# Altium schematic symbol library kmilo17pet-LT_PMIC_LT.SchLib: 2252 symbols (part 33 of 124)
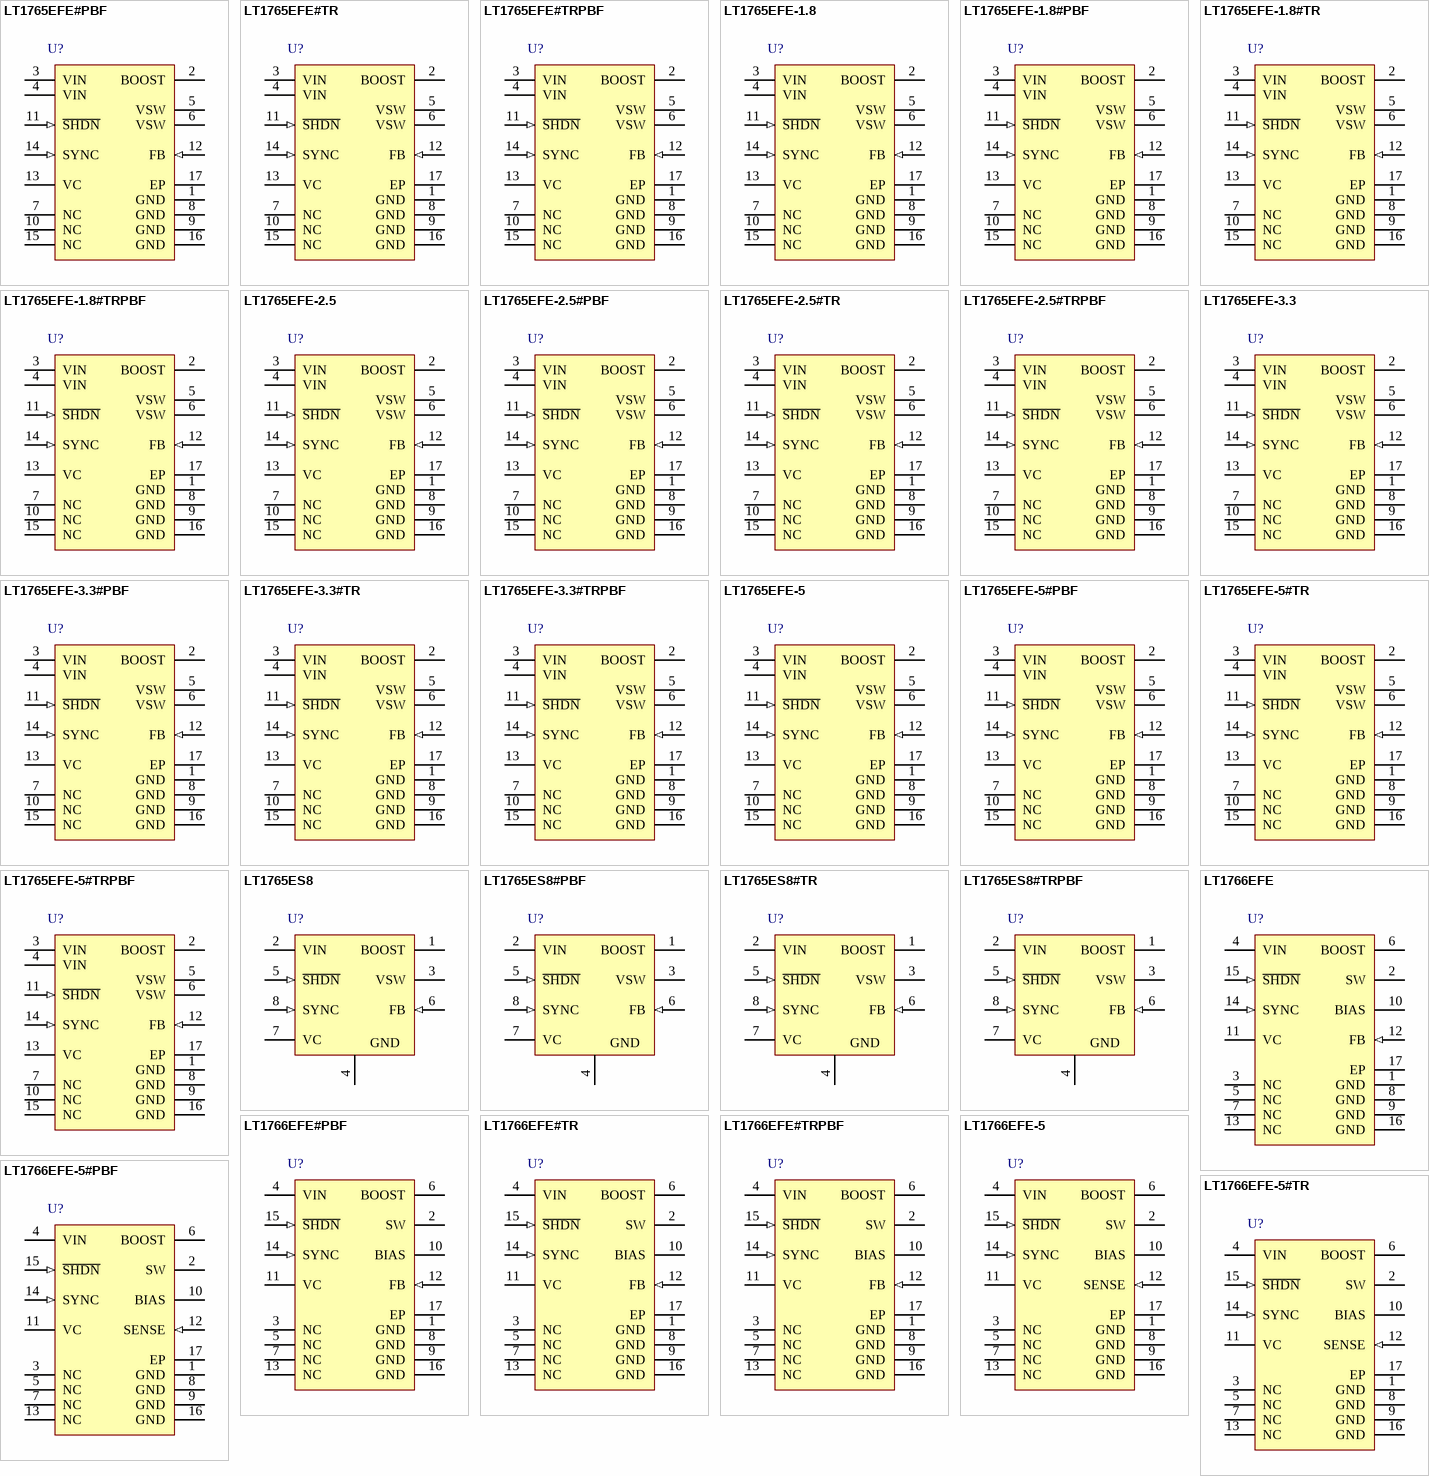
[diagram p103: symbols LT1765EFE#PBF to LT1766EFE-5#TR]

## LT1765EFE#TR
designator U?
Monolithic 3 A, 1.25 MHz Step-Down Switching Regulator, 16-pin SOP (FE-16-EPV-BB), -40 to 125 degC, Tape and Reel; Manufacturer: Linear Technology; PartNumber: LT1765EFE#TR; Number of Outputs: 1; PackageReference: FE-16; PackageDescription: 16-Pin Plastic TSSOP, Body 5 x 4.4 mm, Pitch 0.65 mm; Supplier 1: Digi-Key; Supplier Part Number 1: LT1765EFETR-ND; RoHS: FALSE
footprint LT-FE-16-EPV-BB_N (SOP, 16-Leads, Body 5.1x4.5mm, Pitch 0.65mm, Thermal Pad 3.58x2.94mm, IPC Medium Density)
footprint LT-FE-16-EPV-BB_L (SOP, 16-Leads, Body 5.1x4.5mm, Pitch 0.65mm, Thermal Pad 3.58x2.94mm, IPC High Density)
footprint LT-FE-16-EPV-BB_M (SOP, 16-Leads, Body 5.1x4.5mm, Pitch 0.65mm, Thermal Pad 3.58x2.94mm, IPC Low Density)
pins: 1 GND (power) "The GND pin acts as the reference for the regulated output, so load regulation will suffer if the “ground?end of the load is not at the same voltage as the GND pin of the IC. This condition will occur when load curr(See Datasheet)", 2 BOOST "The BOOST pin is used to provide a drive voltage, higher than the input voltage, to the internal bipolar NPN power switch.", 3 VIN (power) "This is the collector of the on-chip power NPN switch. This pin powers the internal circuitry and internal regulator. At NPN switch on and off, high di/dt edges occur on this pin. Keep the external bypass capacitor and catch (See Datasheet)", 4 VIN (power) "This is the collector of the on-chip power NPN switch. This pin powers the internal circuitry and internal regulator. At NPN switch on and off, high di/dt edges occur on this pin. Keep the external bypass capacitor and catch (See Datasheet)", 5 VSW (power) "The switch pin is the emitter of the on-chip power NPN switch. This pin is driven up to the input pin voltage during switch on time. Inductor current drives the switch pin negative during switch off time. Negative voltage (See Datasheet)", 6 VSW (power) "The switch pin is the emitter of the on-chip power NPN switch. This pin is driven up to the input pin voltage during switch on time. Inductor current drives the switch pin negative during switch off time. Negative voltage (See Datasheet)", 7 NC, 8 GND (power) "The GND pin acts as the reference for the regulated output, so load regulation will suffer if the “ground?end of the load is not at the same voltage as the GND pin of the IC. This condition will occur when load curr(See Datasheet)", 9 GND (power) "The GND pin acts as the reference for the regulated output, so load regulation will suffer if the “ground?end of the load is not at the same voltage as the GND pin of the IC. This condition will occur when load curr(See Datasheet)", 10 NC, 11 ~{SHDN} (in) "The shutdown pin is used to turn off the regulator and to reduce input drain current to a few microamperes. The 1.33V threshold can function as an accurate undervoltage lockout (UVLO), preventing the regulator from operating (See Datasheet)", 12 FB (in) "The feedback pin is used to set output voltage using an external voltage divider (adjustable version) that generates 1.2V at the pin when connected to the desired output voltage. The fixed voltage 1.8V, 2.5V, 3.3V and 5V (See Datasheet)", 13 VC "The VC pin is the output of the error amplifier and the input of the peak switch current comparator. It is normally used for frequency compensation, but can do double duty as a current clamp or control loop override. This (See Datasheet)", 14 SYNC (in) "The sync pin is used to synchronize the internal oscillator to an external signal. It is directly logic compatible and can be driven with any signal between 20% and 80% duty cycle. The synchronizing range is from 1.6MHz to (See Datasheet)", 15 NC, 16 GND (power) "The GND pin acts as the reference for the regulated output, so load regulation will suffer if the “ground?end of the load is not at the same voltage as the GND pin of the IC. This condition will occur when load curr(See Datasheet)", 17 EP (power) "The exposed GND pad and/or GND pins of the package are directly attached to the internal tab. These pins/pad should be attached to a large copper area to reduce thermal resistance."

## LT1765EFE#TRPBF
designator U?
Monolithic 3 A, 1.25 MHz Step-Down Switching Regulator, 16-pin SOP (FE-16-EPV-BB), -40 to 125 degC, Pb-Free, Tape and Reel; Manufacturer: Linear Technology; PartNumber: LT1765EFE#TRPBF; Number of Outputs: 1; PackageReference: FE-16; PackageDescription: 16-Pin Plastic TSSOP, Body 5 x 4.4 mm, Pitch 0.65 mm; Supplier 1: Digi-Key; Supplier Part Number 1: LT1765EFE#TRPBF-ND; RoHS: TRUE
footprint LT-FE-16-EPV-BB_N (SOP, 16-Leads, Body 5.1x4.5mm, Pitch 0.65mm, Thermal Pad 3.58x2.94mm, IPC Medium Density)
footprint LT-FE-16-EPV-BB_L (SOP, 16-Leads, Body 5.1x4.5mm, Pitch 0.65mm, Thermal Pad 3.58x2.94mm, IPC High Density)
footprint LT-FE-16-EPV-BB_M (SOP, 16-Leads, Body 5.1x4.5mm, Pitch 0.65mm, Thermal Pad 3.58x2.94mm, IPC Low Density)
pins: 1 GND (power) "The GND pin acts as the reference for the regulated output, so load regulation will suffer if the “ground?end of the load is not at the same voltage as the GND pin of the IC. This condition will occur when load curr(See Datasheet)", 2 BOOST "The BOOST pin is used to provide a drive voltage, higher than the input voltage, to the internal bipolar NPN power switch.", 3 VIN (power) "This is the collector of the on-chip power NPN switch. This pin powers the internal circuitry and internal regulator. At NPN switch on and off, high di/dt edges occur on this pin. Keep the external bypass capacitor and catch (See Datasheet)", 4 VIN (power) "This is the collector of the on-chip power NPN switch. This pin powers the internal circuitry and internal regulator. At NPN switch on and off, high di/dt edges occur on this pin. Keep the external bypass capacitor and catch (See Datasheet)", 5 VSW (power) "The switch pin is the emitter of the on-chip power NPN switch. This pin is driven up to the input pin voltage during switch on time. Inductor current drives the switch pin negative during switch off time. Negative voltage (See Datasheet)", 6 VSW (power) "The switch pin is the emitter of the on-chip power NPN switch. This pin is driven up to the input pin voltage during switch on time. Inductor current drives the switch pin negative during switch off time. Negative voltage (See Datasheet)", 7 NC, 8 GND (power) "The GND pin acts as the reference for the regulated output, so load regulation will suffer if the “ground?end of the load is not at the same voltage as the GND pin of the IC. This condition will occur when load curr(See Datasheet)", 9 GND (power) "The GND pin acts as the reference for the regulated output, so load regulation will suffer if the “ground?end of the load is not at the same voltage as the GND pin of the IC. This condition will occur when load curr(See Datasheet)", 10 NC, 11 ~{SHDN} (in) "The shutdown pin is used to turn off the regulator and to reduce input drain current to a few microamperes. The 1.33V threshold can function as an accurate undervoltage lockout (UVLO), preventing the regulator from operating (See Datasheet)", 12 FB (in) "The feedback pin is used to set output voltage using an external voltage divider (adjustable version) that generates 1.2V at the pin when connected to the desired output voltage. The fixed voltage 1.8V, 2.5V, 3.3V and 5V (See Datasheet)", 13 VC "The VC pin is the output of the error amplifier and the input of the peak switch current comparator. It is normally used for frequency compensation, but can do double duty as a current clamp or control loop override. This (See Datasheet)", 14 SYNC (in) "The sync pin is used to synchronize the internal oscillator to an external signal. It is directly logic compatible and can be driven with any signal between 20% and 80% duty cycle. The synchronizing range is from 1.6MHz to (See Datasheet)", 15 NC, 16 GND (power) "The GND pin acts as the reference for the regulated output, so load regulation will suffer if the “ground?end of the load is not at the same voltage as the GND pin of the IC. This condition will occur when load curr(See Datasheet)", 17 EP (power) "The exposed GND pad and/or GND pins of the package are directly attached to the internal tab. These pins/pad should be attached to a large copper area to reduce thermal resistance."

## LT1765EFE-1.8
designator U?
Monolithic 3 A, 1.25 MHz Step-Down Switching Regulator, 16-pin SOP (FE-16-EPV-BB), -40 to 125 degC; Manufacturer: Linear Technology; PartNumber: LT1765EFE-1.8; Number of Outputs: 1; PackageReference: FE-16; PackageDescription: 16-Pin Plastic TSSOP, Body 5 x 4.4 mm, Pitch 0.65 mm; Supplier 1: Digi-Key; Supplier Part Number 1: LT1765EFE-1.8-ND; RoHS: FALSE
footprint LT-FE-16-EPV-BB_N (SOP, 16-Leads, Body 5.1x4.5mm, Pitch 0.65mm, Thermal Pad 3.58x2.94mm, IPC Medium Density)
footprint LT-FE-16-EPV-BB_L (SOP, 16-Leads, Body 5.1x4.5mm, Pitch 0.65mm, Thermal Pad 3.58x2.94mm, IPC High Density)
footprint LT-FE-16-EPV-BB_M (SOP, 16-Leads, Body 5.1x4.5mm, Pitch 0.65mm, Thermal Pad 3.58x2.94mm, IPC Low Density)
pins: 1 GND (power) "The GND pin acts as the reference for the regulated output, so load regulation will suffer if the “ground?end of the load is not at the same voltage as the GND pin of the IC. This condition will occur when load curr(See Datasheet)", 2 BOOST "The BOOST pin is used to provide a drive voltage, higher than the input voltage, to the internal bipolar NPN power switch.", 3 VIN (power) "This is the collector of the on-chip power NPN switch. This pin powers the internal circuitry and internal regulator. At NPN switch on and off, high di/dt edges occur on this pin. Keep the external bypass capacitor and catch (See Datasheet)", 4 VIN (power) "This is the collector of the on-chip power NPN switch. This pin powers the internal circuitry and internal regulator. At NPN switch on and off, high di/dt edges occur on this pin. Keep the external bypass capacitor and catch (See Datasheet)", 5 VSW (power) "The switch pin is the emitter of the on-chip power NPN switch. This pin is driven up to the input pin voltage during switch on time. Inductor current drives the switch pin negative during switch off time. Negative voltage (See Datasheet)", 6 VSW (power) "The switch pin is the emitter of the on-chip power NPN switch. This pin is driven up to the input pin voltage during switch on time. Inductor current drives the switch pin negative during switch off time. Negative voltage (See Datasheet)", 7 NC, 8 GND (power) "The GND pin acts as the reference for the regulated output, so load regulation will suffer if the “ground?end of the load is not at the same voltage as the GND pin of the IC. This condition will occur when load curr(See Datasheet)", 9 GND (power) "The GND pin acts as the reference for the regulated output, so load regulation will suffer if the “ground?end of the load is not at the same voltage as the GND pin of the IC. This condition will occur when load curr(See Datasheet)", 10 NC, 11 ~{SHDN} (in) "The shutdown pin is used to turn off the regulator and to reduce input drain current to a few microamperes. The 1.33V threshold can function as an accurate undervoltage lockout (UVLO), preventing the regulator from operating (See Datasheet)", 12 FB (in) "The feedback pin is used to set output voltage using an external voltage divider (adjustable version) that generates 1.2V at the pin when connected to the desired output voltage. The fixed voltage 1.8V, 2.5V, 3.3V and 5V (See Datasheet)", 13 VC "The VC pin is the output of the error amplifier and the input of the peak switch current comparator. It is normally used for frequency compensation, but can do double duty as a current clamp or control loop override. This (See Datasheet)", 14 SYNC (in) "The sync pin is used to synchronize the internal oscillator to an external signal. It is directly logic compatible and can be driven with any signal between 20% and 80% duty cycle. The synchronizing range is from 1.6MHz to (See Datasheet)", 15 NC, 16 GND (power) "The GND pin acts as the reference for the regulated output, so load regulation will suffer if the “ground?end of the load is not at the same voltage as the GND pin of the IC. This condition will occur when load curr(See Datasheet)", 17 EP (power) "The exposed GND pad and/or GND pins of the package are directly attached to the internal tab. These pins/pad should be attached to a large copper area to reduce thermal resistance."

## LT1765EFE-1.8#PBF
designator U?
Monolithic 3 A, 1.25 MHz Step-Down Switching Regulator, 16-pin SOP (FE-16-EPV-BB), -40 to 125 degC, Pb-Free; Manufacturer: Linear Technology; PartNumber: LT1765EFE-1.8#PBF; Number of Outputs: 1; PackageReference: FE-16; PackageDescription: 16-Pin Plastic TSSOP, Body 5 x 4.4 mm, Pitch 0.65 mm; Supplier 1: Digi-Key; Supplier Part Number 1: LT1765EFE-1.8#PBF-ND; RoHS: TRUE
footprint LT-FE-16-EPV-BB_N (SOP, 16-Leads, Body 5.1x4.5mm, Pitch 0.65mm, Thermal Pad 3.58x2.94mm, IPC Medium Density)
footprint LT-FE-16-EPV-BB_L (SOP, 16-Leads, Body 5.1x4.5mm, Pitch 0.65mm, Thermal Pad 3.58x2.94mm, IPC High Density)
footprint LT-FE-16-EPV-BB_M (SOP, 16-Leads, Body 5.1x4.5mm, Pitch 0.65mm, Thermal Pad 3.58x2.94mm, IPC Low Density)
pins: 1 GND (power) "The GND pin acts as the reference for the regulated output, so load regulation will suffer if the “ground?end of the load is not at the same voltage as the GND pin of the IC. This condition will occur when load curr(See Datasheet)", 2 BOOST "The BOOST pin is used to provide a drive voltage, higher than the input voltage, to the internal bipolar NPN power switch.", 3 VIN (power) "This is the collector of the on-chip power NPN switch. This pin powers the internal circuitry and internal regulator. At NPN switch on and off, high di/dt edges occur on this pin. Keep the external bypass capacitor and catch (See Datasheet)", 4 VIN (power) "This is the collector of the on-chip power NPN switch. This pin powers the internal circuitry and internal regulator. At NPN switch on and off, high di/dt edges occur on this pin. Keep the external bypass capacitor and catch (See Datasheet)", 5 VSW (power) "The switch pin is the emitter of the on-chip power NPN switch. This pin is driven up to the input pin voltage during switch on time. Inductor current drives the switch pin negative during switch off time. Negative voltage (See Datasheet)", 6 VSW (power) "The switch pin is the emitter of the on-chip power NPN switch. This pin is driven up to the input pin voltage during switch on time. Inductor current drives the switch pin negative during switch off time. Negative voltage (See Datasheet)", 7 NC, 8 GND (power) "The GND pin acts as the reference for the regulated output, so load regulation will suffer if the “ground?end of the load is not at the same voltage as the GND pin of the IC. This condition will occur when load curr(See Datasheet)", 9 GND (power) "The GND pin acts as the reference for the regulated output, so load regulation will suffer if the “ground?end of the load is not at the same voltage as the GND pin of the IC. This condition will occur when load curr(See Datasheet)", 10 NC, 11 ~{SHDN} (in) "The shutdown pin is used to turn off the regulator and to reduce input drain current to a few microamperes. The 1.33V threshold can function as an accurate undervoltage lockout (UVLO), preventing the regulator from operating (See Datasheet)", 12 FB (in) "The feedback pin is used to set output voltage using an external voltage divider (adjustable version) that generates 1.2V at the pin when connected to the desired output voltage. The fixed voltage 1.8V, 2.5V, 3.3V and 5V (See Datasheet)", 13 VC "The VC pin is the output of the error amplifier and the input of the peak switch current comparator. It is normally used for frequency compensation, but can do double duty as a current clamp or control loop override. This (See Datasheet)", 14 SYNC (in) "The sync pin is used to synchronize the internal oscillator to an external signal. It is directly logic compatible and can be driven with any signal between 20% and 80% duty cycle. The synchronizing range is from 1.6MHz to (See Datasheet)", 15 NC, 16 GND (power) "The GND pin acts as the reference for the regulated output, so load regulation will suffer if the “ground?end of the load is not at the same voltage as the GND pin of the IC. This condition will occur when load curr(See Datasheet)", 17 EP (power) "The exposed GND pad and/or GND pins of the package are directly attached to the internal tab. These pins/pad should be attached to a large copper area to reduce thermal resistance."

## LT1765EFE-1.8#TR
designator U?
Monolithic 3 A, 1.25 MHz Step-Down Switching Regulator, 16-pin SOP (FE-16-EPV-BB), -40 to 125 degC, Tape and Reel; Manufacturer: Linear Technology; PartNumber: LT1765EFE-1.8#TR; Number of Outputs: 1; PackageReference: FE-16; PackageDescription: 16-Pin Plastic TSSOP, Body 5 x 4.4 mm, Pitch 0.65 mm; Supplier 1: Digi-Key; Supplier Part Number 1: LT1765EFE-1.8#TR-ND; RoHS: FALSE
footprint LT-FE-16-EPV-BB_N (SOP, 16-Leads, Body 5.1x4.5mm, Pitch 0.65mm, Thermal Pad 3.58x2.94mm, IPC Medium Density)
footprint LT-FE-16-EPV-BB_L (SOP, 16-Leads, Body 5.1x4.5mm, Pitch 0.65mm, Thermal Pad 3.58x2.94mm, IPC High Density)
footprint LT-FE-16-EPV-BB_M (SOP, 16-Leads, Body 5.1x4.5mm, Pitch 0.65mm, Thermal Pad 3.58x2.94mm, IPC Low Density)
pins: 1 GND (power) "The GND pin acts as the reference for the regulated output, so load regulation will suffer if the “ground?end of the load is not at the same voltage as the GND pin of the IC. This condition will occur when load curr(See Datasheet)", 2 BOOST "The BOOST pin is used to provide a drive voltage, higher than the input voltage, to the internal bipolar NPN power switch.", 3 VIN (power) "This is the collector of the on-chip power NPN switch. This pin powers the internal circuitry and internal regulator. At NPN switch on and off, high di/dt edges occur on this pin. Keep the external bypass capacitor and catch (See Datasheet)", 4 VIN (power) "This is the collector of the on-chip power NPN switch. This pin powers the internal circuitry and internal regulator. At NPN switch on and off, high di/dt edges occur on this pin. Keep the external bypass capacitor and catch (See Datasheet)", 5 VSW (power) "The switch pin is the emitter of the on-chip power NPN switch. This pin is driven up to the input pin voltage during switch on time. Inductor current drives the switch pin negative during switch off time. Negative voltage (See Datasheet)", 6 VSW (power) "The switch pin is the emitter of the on-chip power NPN switch. This pin is driven up to the input pin voltage during switch on time. Inductor current drives the switch pin negative during switch off time. Negative voltage (See Datasheet)", 7 NC, 8 GND (power) "The GND pin acts as the reference for the regulated output, so load regulation will suffer if the “ground?end of the load is not at the same voltage as the GND pin of the IC. This condition will occur when load curr(See Datasheet)", 9 GND (power) "The GND pin acts as the reference for the regulated output, so load regulation will suffer if the “ground?end of the load is not at the same voltage as the GND pin of the IC. This condition will occur when load curr(See Datasheet)", 10 NC, 11 ~{SHDN} (in) "The shutdown pin is used to turn off the regulator and to reduce input drain current to a few microamperes. The 1.33V threshold can function as an accurate undervoltage lockout (UVLO), preventing the regulator from operating (See Datasheet)", 12 FB (in) "The feedback pin is used to set output voltage using an external voltage divider (adjustable version) that generates 1.2V at the pin when connected to the desired output voltage. The fixed voltage 1.8V, 2.5V, 3.3V and 5V (See Datasheet)", 13 VC "The VC pin is the output of the error amplifier and the input of the peak switch current comparator. It is normally used for frequency compensation, but can do double duty as a current clamp or control loop override. This (See Datasheet)", 14 SYNC (in) "The sync pin is used to synchronize the internal oscillator to an external signal. It is directly logic compatible and can be driven with any signal between 20% and 80% duty cycle. The synchronizing range is from 1.6MHz to (See Datasheet)", 15 NC, 16 GND (power) "The GND pin acts as the reference for the regulated output, so load regulation will suffer if the “ground?end of the load is not at the same voltage as the GND pin of the IC. This condition will occur when load curr(See Datasheet)", 17 EP (power) "The exposed GND pad and/or GND pins of the package are directly attached to the internal tab. These pins/pad should be attached to a large copper area to reduce thermal resistance."

## LT1765EFE-1.8#TRPBF
designator U?
Monolithic 3 A, 1.25 MHz Step-Down Switching Regulator, 16-pin SOP (FE-16-EPV-BB), -40 to 125 degC, Pb-Free, Tape and Reel; Manufacturer: Linear Technology; PartNumber: LT1765EFE-1.8#TRPBF; Number of Outputs: 1; PackageReference: FE-16; PackageDescription: 16-Pin Plastic TSSOP, Body 5 x 4.4 mm, Pitch 0.65 mm; Supplier 1: Digi-Key; Supplier Part Number 1: LT1765EFE-1.8#TRPBF-ND; RoHS: TRUE
footprint LT-FE-16-EPV-BB_N (SOP, 16-Leads, Body 5.1x4.5mm, Pitch 0.65mm, Thermal Pad 3.58x2.94mm, IPC Medium Density)
footprint LT-FE-16-EPV-BB_L (SOP, 16-Leads, Body 5.1x4.5mm, Pitch 0.65mm, Thermal Pad 3.58x2.94mm, IPC High Density)
footprint LT-FE-16-EPV-BB_M (SOP, 16-Leads, Body 5.1x4.5mm, Pitch 0.65mm, Thermal Pad 3.58x2.94mm, IPC Low Density)
pins: 1 GND (power) "The GND pin acts as the reference for the regulated output, so load regulation will suffer if the “ground?end of the load is not at the same voltage as the GND pin of the IC. This condition will occur when load curr(See Datasheet)", 2 BOOST "The BOOST pin is used to provide a drive voltage, higher than the input voltage, to the internal bipolar NPN power switch.", 3 VIN (power) "This is the collector of the on-chip power NPN switch. This pin powers the internal circuitry and internal regulator. At NPN switch on and off, high di/dt edges occur on this pin. Keep the external bypass capacitor and catch (See Datasheet)", 4 VIN (power) "This is the collector of the on-chip power NPN switch. This pin powers the internal circuitry and internal regulator. At NPN switch on and off, high di/dt edges occur on this pin. Keep the external bypass capacitor and catch (See Datasheet)", 5 VSW (power) "The switch pin is the emitter of the on-chip power NPN switch. This pin is driven up to the input pin voltage during switch on time. Inductor current drives the switch pin negative during switch off time. Negative voltage (See Datasheet)", 6 VSW (power) "The switch pin is the emitter of the on-chip power NPN switch. This pin is driven up to the input pin voltage during switch on time. Inductor current drives the switch pin negative during switch off time. Negative voltage (See Datasheet)", 7 NC, 8 GND (power) "The GND pin acts as the reference for the regulated output, so load regulation will suffer if the “ground?end of the load is not at the same voltage as the GND pin of the IC. This condition will occur when load curr(See Datasheet)", 9 GND (power) "The GND pin acts as the reference for the regulated output, so load regulation will suffer if the “ground?end of the load is not at the same voltage as the GND pin of the IC. This condition will occur when load curr(See Datasheet)", 10 NC, 11 ~{SHDN} (in) "The shutdown pin is used to turn off the regulator and to reduce input drain current to a few microamperes. The 1.33V threshold can function as an accurate undervoltage lockout (UVLO), preventing the regulator from operating (See Datasheet)", 12 FB (in) "The feedback pin is used to set output voltage using an external voltage divider (adjustable version) that generates 1.2V at the pin when connected to the desired output voltage. The fixed voltage 1.8V, 2.5V, 3.3V and 5V (See Datasheet)", 13 VC "The VC pin is the output of the error amplifier and the input of the peak switch current comparator. It is normally used for frequency compensation, but can do double duty as a current clamp or control loop override. This (See Datasheet)", 14 SYNC (in) "The sync pin is used to synchronize the internal oscillator to an external signal. It is directly logic compatible and can be driven with any signal between 20% and 80% duty cycle. The synchronizing range is from 1.6MHz to (See Datasheet)", 15 NC, 16 GND (power) "The GND pin acts as the reference for the regulated output, so load regulation will suffer if the “ground?end of the load is not at the same voltage as the GND pin of the IC. This condition will occur when load curr(See Datasheet)", 17 EP (power) "The exposed GND pad and/or GND pins of the package are directly attached to the internal tab. These pins/pad should be attached to a large copper area to reduce thermal resistance."

## LT1765EFE-2.5
designator U?
Monolithic 3 A, 1.25 MHz Step-Down Switching Regulator, 16-pin SOP (FE-16-EPV-BB), -40 to 125 degC; Manufacturer: Linear Technology; PartNumber: LT1765EFE-2.5; Number of Outputs: 1; PackageReference: FE-16; PackageDescription: 16-Pin Plastic TSSOP, Body 5 x 4.4 mm, Pitch 0.65 mm; RoHS: FALSE
footprint LT-FE-16-EPV-BB_N (SOP, 16-Leads, Body 5.1x4.5mm, Pitch 0.65mm, Thermal Pad 3.58x2.94mm, IPC Medium Density)
footprint LT-FE-16-EPV-BB_L (SOP, 16-Leads, Body 5.1x4.5mm, Pitch 0.65mm, Thermal Pad 3.58x2.94mm, IPC High Density)
footprint LT-FE-16-EPV-BB_M (SOP, 16-Leads, Body 5.1x4.5mm, Pitch 0.65mm, Thermal Pad 3.58x2.94mm, IPC Low Density)
pins: 1 GND (power) "The GND pin acts as the reference for the regulated output, so load regulation will suffer if the “ground?end of the load is not at the same voltage as the GND pin of the IC. This condition will occur when load curr(See Datasheet)", 2 BOOST "The BOOST pin is used to provide a drive voltage, higher than the input voltage, to the internal bipolar NPN power switch.", 3 VIN (power) "This is the collector of the on-chip power NPN switch. This pin powers the internal circuitry and internal regulator. At NPN switch on and off, high di/dt edges occur on this pin. Keep the external bypass capacitor and catch (See Datasheet)", 4 VIN (power) "This is the collector of the on-chip power NPN switch. This pin powers the internal circuitry and internal regulator. At NPN switch on and off, high di/dt edges occur on this pin. Keep the external bypass capacitor and catch (See Datasheet)", 5 VSW (power) "The switch pin is the emitter of the on-chip power NPN switch. This pin is driven up to the input pin voltage during switch on time. Inductor current drives the switch pin negative during switch off time. Negative voltage (See Datasheet)", 6 VSW (power) "The switch pin is the emitter of the on-chip power NPN switch. This pin is driven up to the input pin voltage during switch on time. Inductor current drives the switch pin negative during switch off time. Negative voltage (See Datasheet)", 7 NC, 8 GND (power) "The GND pin acts as the reference for the regulated output, so load regulation will suffer if the “ground?end of the load is not at the same voltage as the GND pin of the IC. This condition will occur when load curr(See Datasheet)", 9 GND (power) "The GND pin acts as the reference for the regulated output, so load regulation will suffer if the “ground?end of the load is not at the same voltage as the GND pin of the IC. This condition will occur when load curr(See Datasheet)", 10 NC, 11 ~{SHDN} (in) "The shutdown pin is used to turn off the regulator and to reduce input drain current to a few microamperes. The 1.33V threshold can function as an accurate undervoltage lockout (UVLO), preventing the regulator from operating (See Datasheet)", 12 FB (in) "The feedback pin is used to set output voltage using an external voltage divider (adjustable version) that generates 1.2V at the pin when connected to the desired output voltage. The fixed voltage 1.8V, 2.5V, 3.3V and 5V (See Datasheet)", 13 VC "The VC pin is the output of the error amplifier and the input of the peak switch current comparator. It is normally used for frequency compensation, but can do double duty as a current clamp or control loop override. This (See Datasheet)", 14 SYNC (in) "The sync pin is used to synchronize the internal oscillator to an external signal. It is directly logic compatible and can be driven with any signal between 20% and 80% duty cycle. The synchronizing range is from 1.6MHz to (See Datasheet)", 15 NC, 16 GND (power) "The GND pin acts as the reference for the regulated output, so load regulation will suffer if the “ground?end of the load is not at the same voltage as the GND pin of the IC. This condition will occur when load curr(See Datasheet)", 17 EP (power) "The exposed GND pad and/or GND pins of the package are directly attached to the internal tab. These pins/pad should be attached to a large copper area to reduce thermal resistance."

## LT1765EFE-2.5#PBF
designator U?
Monolithic 3 A, 1.25 MHz Step-Down Switching Regulator, 16-pin SOP (FE-16-EPV-BB), -40 to 125 degC, Pb-Free; Manufacturer: Linear Technology; PartNumber: LT1765EFE-2.5#PBF; Number of Outputs: 1; PackageReference: FE-16; PackageDescription: 16-Pin Plastic TSSOP, Body 5 x 4.4 mm, Pitch 0.65 mm; Supplier 1: Digi-Key; Supplier Part Number 1: LT1765EFE-2.5#PBF-ND; RoHS: TRUE
footprint LT-FE-16-EPV-BB_N (SOP, 16-Leads, Body 5.1x4.5mm, Pitch 0.65mm, Thermal Pad 3.58x2.94mm, IPC Medium Density)
footprint LT-FE-16-EPV-BB_L (SOP, 16-Leads, Body 5.1x4.5mm, Pitch 0.65mm, Thermal Pad 3.58x2.94mm, IPC High Density)
footprint LT-FE-16-EPV-BB_M (SOP, 16-Leads, Body 5.1x4.5mm, Pitch 0.65mm, Thermal Pad 3.58x2.94mm, IPC Low Density)
pins: 1 GND (power) "The GND pin acts as the reference for the regulated output, so load regulation will suffer if the “ground?end of the load is not at the same voltage as the GND pin of the IC. This condition will occur when load curr(See Datasheet)", 2 BOOST "The BOOST pin is used to provide a drive voltage, higher than the input voltage, to the internal bipolar NPN power switch.", 3 VIN (power) "This is the collector of the on-chip power NPN switch. This pin powers the internal circuitry and internal regulator. At NPN switch on and off, high di/dt edges occur on this pin. Keep the external bypass capacitor and catch (See Datasheet)", 4 VIN (power) "This is the collector of the on-chip power NPN switch. This pin powers the internal circuitry and internal regulator. At NPN switch on and off, high di/dt edges occur on this pin. Keep the external bypass capacitor and catch (See Datasheet)", 5 VSW (power) "The switch pin is the emitter of the on-chip power NPN switch. This pin is driven up to the input pin voltage during switch on time. Inductor current drives the switch pin negative during switch off time. Negative voltage (See Datasheet)", 6 VSW (power) "The switch pin is the emitter of the on-chip power NPN switch. This pin is driven up to the input pin voltage during switch on time. Inductor current drives the switch pin negative during switch off time. Negative voltage (See Datasheet)", 7 NC, 8 GND (power) "The GND pin acts as the reference for the regulated output, so load regulation will suffer if the “ground?end of the load is not at the same voltage as the GND pin of the IC. This condition will occur when load curr(See Datasheet)", 9 GND (power) "The GND pin acts as the reference for the regulated output, so load regulation will suffer if the “ground?end of the load is not at the same voltage as the GND pin of the IC. This condition will occur when load curr(See Datasheet)", 10 NC, 11 ~{SHDN} (in) "The shutdown pin is used to turn off the regulator and to reduce input drain current to a few microamperes. The 1.33V threshold can function as an accurate undervoltage lockout (UVLO), preventing the regulator from operating (See Datasheet)", 12 FB (in) "The feedback pin is used to set output voltage using an external voltage divider (adjustable version) that generates 1.2V at the pin when connected to the desired output voltage. The fixed voltage 1.8V, 2.5V, 3.3V and 5V (See Datasheet)", 13 VC "The VC pin is the output of the error amplifier and the input of the peak switch current comparator. It is normally used for frequency compensation, but can do double duty as a current clamp or control loop override. This (See Datasheet)", 14 SYNC (in) "The sync pin is used to synchronize the internal oscillator to an external signal. It is directly logic compatible and can be driven with any signal between 20% and 80% duty cycle. The synchronizing range is from 1.6MHz to (See Datasheet)", 15 NC, 16 GND (power) "The GND pin acts as the reference for the regulated output, so load regulation will suffer if the “ground?end of the load is not at the same voltage as the GND pin of the IC. This condition will occur when load curr(See Datasheet)", 17 EP (power) "The exposed GND pad and/or GND pins of the package are directly attached to the internal tab. These pins/pad should be attached to a large copper area to reduce thermal resistance."

## LT1765EFE-2.5#TR
designator U?
Monolithic 3 A, 1.25 MHz Step-Down Switching Regulator, 16-pin SOP (FE-16-EPV-BB), -40 to 125 degC, Tape and Reel; Manufacturer: Linear Technology; PartNumber: LT1765EFE-2.5#TR; Number of Outputs: 1; PackageReference: FE-16; PackageDescription: 16-Pin Plastic TSSOP, Body 5 x 4.4 mm, Pitch 0.65 mm; Supplier 1: Digi-Key; Supplier Part Number 1: LT1765EFE-2.5#TR-ND; RoHS: FALSE
footprint LT-FE-16-EPV-BB_N (SOP, 16-Leads, Body 5.1x4.5mm, Pitch 0.65mm, Thermal Pad 3.58x2.94mm, IPC Medium Density)
footprint LT-FE-16-EPV-BB_L (SOP, 16-Leads, Body 5.1x4.5mm, Pitch 0.65mm, Thermal Pad 3.58x2.94mm, IPC High Density)
footprint LT-FE-16-EPV-BB_M (SOP, 16-Leads, Body 5.1x4.5mm, Pitch 0.65mm, Thermal Pad 3.58x2.94mm, IPC Low Density)
pins: 1 GND (power) "The GND pin acts as the reference for the regulated output, so load regulation will suffer if the “ground?end of the load is not at the same voltage as the GND pin of the IC. This condition will occur when load curr(See Datasheet)", 2 BOOST "The BOOST pin is used to provide a drive voltage, higher than the input voltage, to the internal bipolar NPN power switch.", 3 VIN (power) "This is the collector of the on-chip power NPN switch. This pin powers the internal circuitry and internal regulator. At NPN switch on and off, high di/dt edges occur on this pin. Keep the external bypass capacitor and catch (See Datasheet)", 4 VIN (power) "This is the collector of the on-chip power NPN switch. This pin powers the internal circuitry and internal regulator. At NPN switch on and off, high di/dt edges occur on this pin. Keep the external bypass capacitor and catch (See Datasheet)", 5 VSW (power) "The switch pin is the emitter of the on-chip power NPN switch. This pin is driven up to the input pin voltage during switch on time. Inductor current drives the switch pin negative during switch off time. Negative voltage (See Datasheet)", 6 VSW (power) "The switch pin is the emitter of the on-chip power NPN switch. This pin is driven up to the input pin voltage during switch on time. Inductor current drives the switch pin negative during switch off time. Negative voltage (See Datasheet)", 7 NC, 8 GND (power) "The GND pin acts as the reference for the regulated output, so load regulation will suffer if the “ground?end of the load is not at the same voltage as the GND pin of the IC. This condition will occur when load curr(See Datasheet)", 9 GND (power) "The GND pin acts as the reference for the regulated output, so load regulation will suffer if the “ground?end of the load is not at the same voltage as the GND pin of the IC. This condition will occur when load curr(See Datasheet)", 10 NC, 11 ~{SHDN} (in) "The shutdown pin is used to turn off the regulator and to reduce input drain current to a few microamperes. The 1.33V threshold can function as an accurate undervoltage lockout (UVLO), preventing the regulator from operating (See Datasheet)", 12 FB (in) "The feedback pin is used to set output voltage using an external voltage divider (adjustable version) that generates 1.2V at the pin when connected to the desired output voltage. The fixed voltage 1.8V, 2.5V, 3.3V and 5V (See Datasheet)", 13 VC "The VC pin is the output of the error amplifier and the input of the peak switch current comparator. It is normally used for frequency compensation, but can do double duty as a current clamp or control loop override. This (See Datasheet)", 14 SYNC (in) "The sync pin is used to synchronize the internal oscillator to an external signal. It is directly logic compatible and can be driven with any signal between 20% and 80% duty cycle. The synchronizing range is from 1.6MHz to (See Datasheet)", 15 NC, 16 GND (power) "The GND pin acts as the reference for the regulated output, so load regulation will suffer if the “ground?end of the load is not at the same voltage as the GND pin of the IC. This condition will occur when load curr(See Datasheet)", 17 EP (power) "The exposed GND pad and/or GND pins of the package are directly attached to the internal tab. These pins/pad should be attached to a large copper area to reduce thermal resistance."

## LT1765EFE-2.5#TRPBF
designator U?
Monolithic 3 A, 1.25 MHz Step-Down Switching Regulator, 16-pin SOP (FE-16-EPV-BB), -40 to 125 degC, Pb-Free, Tape and Reel; Manufacturer: Linear Technology; PartNumber: LT1765EFE-2.5#TRPBF; Number of Outputs: 1; PackageReference: FE-16; PackageDescription: 16-Pin Plastic TSSOP, Body 5 x 4.4 mm, Pitch 0.65 mm; Supplier 1: Digi-Key; Supplier Part Number 1: LT1765EFE-2.5#TRPBF-ND; RoHS: TRUE
footprint LT-FE-16-EPV-BB_N (SOP, 16-Leads, Body 5.1x4.5mm, Pitch 0.65mm, Thermal Pad 3.58x2.94mm, IPC Medium Density)
footprint LT-FE-16-EPV-BB_L (SOP, 16-Leads, Body 5.1x4.5mm, Pitch 0.65mm, Thermal Pad 3.58x2.94mm, IPC High Density)
footprint LT-FE-16-EPV-BB_M (SOP, 16-Leads, Body 5.1x4.5mm, Pitch 0.65mm, Thermal Pad 3.58x2.94mm, IPC Low Density)
pins: 1 GND (power) "The GND pin acts as the reference for the regulated output, so load regulation will suffer if the “ground?end of the load is not at the same voltage as the GND pin of the IC. This condition will occur when load curr(See Datasheet)", 2 BOOST "The BOOST pin is used to provide a drive voltage, higher than the input voltage, to the internal bipolar NPN power switch.", 3 VIN (power) "This is the collector of the on-chip power NPN switch. This pin powers the internal circuitry and internal regulator. At NPN switch on and off, high di/dt edges occur on this pin. Keep the external bypass capacitor and catch (See Datasheet)", 4 VIN (power) "This is the collector of the on-chip power NPN switch. This pin powers the internal circuitry and internal regulator. At NPN switch on and off, high di/dt edges occur on this pin. Keep the external bypass capacitor and catch (See Datasheet)", 5 VSW (power) "The switch pin is the emitter of the on-chip power NPN switch. This pin is driven up to the input pin voltage during switch on time. Inductor current drives the switch pin negative during switch off time. Negative voltage (See Datasheet)", 6 VSW (power) "The switch pin is the emitter of the on-chip power NPN switch. This pin is driven up to the input pin voltage during switch on time. Inductor current drives the switch pin negative during switch off time. Negative voltage (See Datasheet)", 7 NC, 8 GND (power) "The GND pin acts as the reference for the regulated output, so load regulation will suffer if the “ground?end of the load is not at the same voltage as the GND pin of the IC. This condition will occur when load curr(See Datasheet)", 9 GND (power) "The GND pin acts as the reference for the regulated output, so load regulation will suffer if the “ground?end of the load is not at the same voltage as the GND pin of the IC. This condition will occur when load curr(See Datasheet)", 10 NC, 11 ~{SHDN} (in) "The shutdown pin is used to turn off the regulator and to reduce input drain current to a few microamperes. The 1.33V threshold can function as an accurate undervoltage lockout (UVLO), preventing the regulator from operating (See Datasheet)", 12 FB (in) "The feedback pin is used to set output voltage using an external voltage divider (adjustable version) that generates 1.2V at the pin when connected to the desired output voltage. The fixed voltage 1.8V, 2.5V, 3.3V and 5V (See Datasheet)", 13 VC "The VC pin is the output of the error amplifier and the input of the peak switch current comparator. It is normally used for frequency compensation, but can do double duty as a current clamp or control loop override. This (See Datasheet)", 14 SYNC (in) "The sync pin is used to synchronize the internal oscillator to an external signal. It is directly logic compatible and can be driven with any signal between 20% and 80% duty cycle. The synchronizing range is from 1.6MHz to (See Datasheet)", 15 NC, 16 GND (power) "The GND pin acts as the reference for the regulated output, so load regulation will suffer if the “ground?end of the load is not at the same voltage as the GND pin of the IC. This condition will occur when load curr(See Datasheet)", 17 EP (power) "The exposed GND pad and/or GND pins of the package are directly attached to the internal tab. These pins/pad should be attached to a large copper area to reduce thermal resistance."

## LT1765EFE-3.3
designator U?
Monolithic 3 A, 1.25 MHz Step-Down Switching Regulator, 16-pin SOP (FE-16-EPV-BB), -40 to 125 degC; Manufacturer: Linear Technology; PartNumber: LT1765EFE-3.3; Number of Outputs: 1; PackageReference: FE-16; PackageDescription: 16-Pin Plastic TSSOP, Body 5 x 4.4 mm, Pitch 0.65 mm; Supplier 1: Digi-Key; Supplier Part Number 1: LT1765EFE-3.3-ND; RoHS: FALSE
footprint LT-FE-16-EPV-BB_N (SOP, 16-Leads, Body 5.1x4.5mm, Pitch 0.65mm, Thermal Pad 3.58x2.94mm, IPC Medium Density)
footprint LT-FE-16-EPV-BB_L (SOP, 16-Leads, Body 5.1x4.5mm, Pitch 0.65mm, Thermal Pad 3.58x2.94mm, IPC High Density)
footprint LT-FE-16-EPV-BB_M (SOP, 16-Leads, Body 5.1x4.5mm, Pitch 0.65mm, Thermal Pad 3.58x2.94mm, IPC Low Density)
pins: 1 GND (power) "The GND pin acts as the reference for the regulated output, so load regulation will suffer if the “ground?end of the load is not at the same voltage as the GND pin of the IC. This condition will occur when load curr(See Datasheet)", 2 BOOST "The BOOST pin is used to provide a drive voltage, higher than the input voltage, to the internal bipolar NPN power switch.", 3 VIN (power) "This is the collector of the on-chip power NPN switch. This pin powers the internal circuitry and internal regulator. At NPN switch on and off, high di/dt edges occur on this pin. Keep the external bypass capacitor and catch (See Datasheet)", 4 VIN (power) "This is the collector of the on-chip power NPN switch. This pin powers the internal circuitry and internal regulator. At NPN switch on and off, high di/dt edges occur on this pin. Keep the external bypass capacitor and catch (See Datasheet)", 5 VSW (power) "The switch pin is the emitter of the on-chip power NPN switch. This pin is driven up to the input pin voltage during switch on time. Inductor current drives the switch pin negative during switch off time. Negative voltage (See Datasheet)", 6 VSW (power) "The switch pin is the emitter of the on-chip power NPN switch. This pin is driven up to the input pin voltage during switch on time. Inductor current drives the switch pin negative during switch off time. Negative voltage (See Datasheet)", 7 NC, 8 GND (power) "The GND pin acts as the reference for the regulated output, so load regulation will suffer if the “ground?end of the load is not at the same voltage as the GND pin of the IC. This condition will occur when load curr(See Datasheet)", 9 GND (power) "The GND pin acts as the reference for the regulated output, so load regulation will suffer if the “ground?end of the load is not at the same voltage as the GND pin of the IC. This condition will occur when load curr(See Datasheet)", 10 NC, 11 ~{SHDN} (in) "The shutdown pin is used to turn off the regulator and to reduce input drain current to a few microamperes. The 1.33V threshold can function as an accurate undervoltage lockout (UVLO), preventing the regulator from operating (See Datasheet)", 12 FB (in) "The feedback pin is used to set output voltage using an external voltage divider (adjustable version) that generates 1.2V at the pin when connected to the desired output voltage. The fixed voltage 1.8V, 2.5V, 3.3V and 5V (See Datasheet)", 13 VC "The VC pin is the output of the error amplifier and the input of the peak switch current comparator. It is normally used for frequency compensation, but can do double duty as a current clamp or control loop override. This (See Datasheet)", 14 SYNC (in) "The sync pin is used to synchronize the internal oscillator to an external signal. It is directly logic compatible and can be driven with any signal between 20% and 80% duty cycle. The synchronizing range is from 1.6MHz to (See Datasheet)", 15 NC, 16 GND (power) "The GND pin acts as the reference for the regulated output, so load regulation will suffer if the “ground?end of the load is not at the same voltage as the GND pin of the IC. This condition will occur when load curr(See Datasheet)", 17 EP (power) "The exposed GND pad and/or GND pins of the package are directly attached to the internal tab. These pins/pad should be attached to a large copper area to reduce thermal resistance."

## LT1765EFE-3.3#PBF
designator U?
Monolithic 3 A, 1.25 MHz Step-Down Switching Regulator, 16-pin SOP (FE-16-EPV-BB), -40 to 125 degC, Pb-Free; Manufacturer: Linear Technology; PartNumber: LT1765EFE-3.3#PBF; Number of Outputs: 1; PackageReference: FE-16; PackageDescription: 16-Pin Plastic TSSOP, Body 5 x 4.4 mm, Pitch 0.65 mm; Supplier 1: Digi-Key; Supplier Part Number 1: LT1765EFE-3.3#PBF-ND; RoHS: TRUE
footprint LT-FE-16-EPV-BB_N (SOP, 16-Leads, Body 5.1x4.5mm, Pitch 0.65mm, Thermal Pad 3.58x2.94mm, IPC Medium Density)
footprint LT-FE-16-EPV-BB_L (SOP, 16-Leads, Body 5.1x4.5mm, Pitch 0.65mm, Thermal Pad 3.58x2.94mm, IPC High Density)
footprint LT-FE-16-EPV-BB_M (SOP, 16-Leads, Body 5.1x4.5mm, Pitch 0.65mm, Thermal Pad 3.58x2.94mm, IPC Low Density)
pins: 1 GND (power) "The GND pin acts as the reference for the regulated output, so load regulation will suffer if the “ground?end of the load is not at the same voltage as the GND pin of the IC. This condition will occur when load curr(See Datasheet)", 2 BOOST "The BOOST pin is used to provide a drive voltage, higher than the input voltage, to the internal bipolar NPN power switch.", 3 VIN (power) "This is the collector of the on-chip power NPN switch. This pin powers the internal circuitry and internal regulator. At NPN switch on and off, high di/dt edges occur on this pin. Keep the external bypass capacitor and catch (See Datasheet)", 4 VIN (power) "This is the collector of the on-chip power NPN switch. This pin powers the internal circuitry and internal regulator. At NPN switch on and off, high di/dt edges occur on this pin. Keep the external bypass capacitor and catch (See Datasheet)", 5 VSW (power) "The switch pin is the emitter of the on-chip power NPN switch. This pin is driven up to the input pin voltage during switch on time. Inductor current drives the switch pin negative during switch off time. Negative voltage (See Datasheet)", 6 VSW (power) "The switch pin is the emitter of the on-chip power NPN switch. This pin is driven up to the input pin voltage during switch on time. Inductor current drives the switch pin negative during switch off time. Negative voltage (See Datasheet)", 7 NC, 8 GND (power) "The GND pin acts as the reference for the regulated output, so load regulation will suffer if the “ground?end of the load is not at the same voltage as the GND pin of the IC. This condition will occur when load curr(See Datasheet)", 9 GND (power) "The GND pin acts as the reference for the regulated output, so load regulation will suffer if the “ground?end of the load is not at the same voltage as the GND pin of the IC. This condition will occur when load curr(See Datasheet)", 10 NC, 11 ~{SHDN} (in) "The shutdown pin is used to turn off the regulator and to reduce input drain current to a few microamperes. The 1.33V threshold can function as an accurate undervoltage lockout (UVLO), preventing the regulator from operating (See Datasheet)", 12 FB (in) "The feedback pin is used to set output voltage using an external voltage divider (adjustable version) that generates 1.2V at the pin when connected to the desired output voltage. The fixed voltage 1.8V, 2.5V, 3.3V and 5V (See Datasheet)", 13 VC "The VC pin is the output of the error amplifier and the input of the peak switch current comparator. It is normally used for frequency compensation, but can do double duty as a current clamp or control loop override. This (See Datasheet)", 14 SYNC (in) "The sync pin is used to synchronize the internal oscillator to an external signal. It is directly logic compatible and can be driven with any signal between 20% and 80% duty cycle. The synchronizing range is from 1.6MHz to (See Datasheet)", 15 NC, 16 GND (power) "The GND pin acts as the reference for the regulated output, so load regulation will suffer if the “ground?end of the load is not at the same voltage as the GND pin of the IC. This condition will occur when load curr(See Datasheet)", 17 EP (power) "The exposed GND pad and/or GND pins of the package are directly attached to the internal tab. These pins/pad should be attached to a large copper area to reduce thermal resistance."